# EAGLE library part EXTCON28P (library ublox)
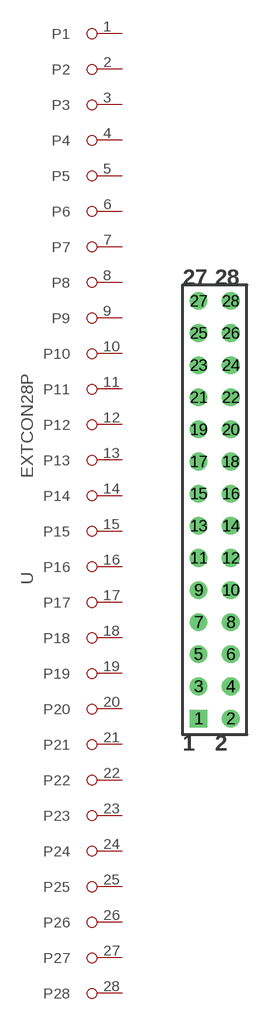
[diagram p2: symbol with the pads of EXTCON28P; footprint EXTCON28P]

Designator prefix -

## EXTCON28P  [EXTCON28P]
1  P1
2  P2
3  P3
4  P4
5  P5
6  P6
7  P7
8  P8
9  P9
10  P10
11  P11
12  P12
13  P13
14  P14
15  P15
16  P16
17  P17
18  P18
19  P19
20  P20
21  P21
22  P22
23  P23
24  P24
25  P25
26  P26
27  P27
28  P28

## Footprint EXTCON28P (pad centres in mm)
drill 0.889 square: 1 -1.27,-16.51
drill 0.889 round: 2 1.27,-16.51; 3 -1.27,-13.97; 4 1.27,-13.97; 5 -1.27,-11.43; 6 1.27,-11.43; 7 -1.27,-8.89; 8 1.27,-8.89; 9 -1.27,-6.35; 10 1.27,-6.35; 11 -1.27,-3.81; 12 1.27,-3.81; 13 -1.27,-1.27; 14 1.27,-1.27; 15 -1.27,1.27; 16 1.27,1.27; 17 -1.27,3.81; 18 1.27,3.81; 19 -1.27,6.35; 20 1.27,6.35; 21 -1.27,8.89; 22 1.27,8.89; 23 -1.27,11.43; 24 1.27,11.43; 25 -1.27,13.97; 26 1.27,13.97; 27 -1.27,16.51; 28 1.27,16.51